# Altium schematic symbol library Potentiometer.SchLib: 30 symbols
Pins are listed as number, name and electrical type; pins without a type are passive.

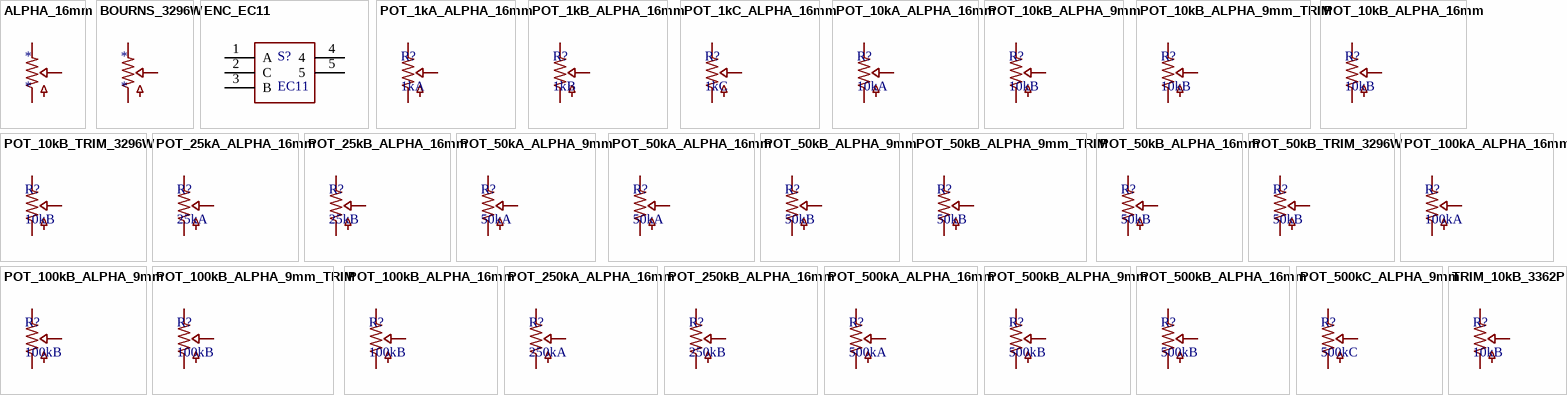
[diagram p0: symbols ALPHA_16mm to TRIM_10kB_3362P]

## ALPHA_16mm
designator *
Price: 0.5
footprint ALPHA_16mm_BOTTOM
footprint ALPHA_16mm_TOP
pins: 1, 2, 3

## BOURNS_3296W
designator *
Price: 0.1
footprint BOURNS_3296W
pins: 1, 2, 3

## ENC_EC11
designator S?, comment EC11
footprint ALPHA_EC11
pins: 1 A, 2 C, 3 B, 4, 5

## POT_1kA_ALPHA_16mm
designator R?, comment 1kA
1k Log potentiometer round shaft; Price: 0.5; Dimensions: 16mm; Package: PCB Mounted
footprint ALPHA_16mm_BOTTOM
footprint ALPHA_16mm_TOP
pins: 1, 2, 3

## POT_1kB_ALPHA_16mm
designator R?, comment 1kB
1k Lin potentiometer round shaft; Price: 0.5; Dimensions: 16mm; Package: PCB Mounted
footprint ALPHA_16mm_BOTTOM
footprint ALPHA_16mm_TOP
pins: 1, 2, 3

## POT_1kC_ALPHA_16mm
designator R?, comment 1kC
1k Reverse log potentiometer round shaft; Price: 0.5; Dimensions: 16mm; Package: PCB Mounted
footprint ALPHA_16mm_BOTTOM
footprint ALPHA_16mm_TOP
pins: 1, 2, 3

## POT_10kA_ALPHA_16mm
designator R?, comment 10kA
10k Log potentiometer round shaft; Price: 0.5; Dimensions: 16mm; Package: PCB Mounted
footprint ALPHA_16mm_BOTTOM
footprint ALPHA_16mm_TOP
pins: 1, 2, 3

## POT_10kB_ALPHA_9mm
designator R?, comment 10kB
10k Lin potentiometer round shaft; Price: 1.3; Dimensions: 9mm; Package: PCB Mounted
footprint ALPHA_9MM_TOP
footprint ALPHA_9MM_TOP_NOMH
pins: 1, 2, 3

## POT_10kB_ALPHA_9mm_TRIM
designator R?, comment 10kB
10k Lin potentiometer trimmer; Price: 1.3; Dimensions: 9mm; Package: PCB Mounted
footprint ALPHA_9MM_TRIM_TOP
pins: 1, 2, 3

## POT_10kB_ALPHA_16mm
designator R?, comment 10kB
10k Lin potentiometer round shaft; Price: 0.5; Dimensions: 16mm; Package: PCB Mounted
footprint ALPHA_16mm_BOTTOM
footprint ALPHA_16mm_TOP
pins: 1, 2, 3

## POT_10kB_TRIM_3296W
designator R?, comment 10kB
10k Lin 3296W trimmer; Price: 0.1
footprint BOURNS_3296W
pins: 1, 2, 3

## POT_25kA_ALPHA_16mm
designator R?, comment 25kA
25k Log potentiometer round shaft; Price: 0.5; Dimensions: 16mm; Package: PCB Mounted
footprint ALPHA_16mm_BOTTOM
footprint ALPHA_16mm_TOP
pins: 1, 2, 3

## POT_25kB_ALPHA_16mm
designator R?, comment 25kB
25k Lin potentiometer round shaft; Price: 0.5; Dimensions: 16mm; Package: PCB Mounted
footprint ALPHA_16mm_BOTTOM
footprint ALPHA_16mm_TOP
pins: 1, 2, 3

## POT_50kA_ALPHA_9mm
designator R?, comment 50kA
50k Log potentiometer round shaft; Price: 1.3; Dimensions: 9mm; Package: PCB Mounted
footprint ALPHA_9MM_TOP
footprint ALPHA_9MM_TOP_NOMH
pins: 1, 2, 3

## POT_50kA_ALPHA_16mm
designator R?, comment 50kA
50k Log potentiometer round shaft; Price: 0.5; Dimensions: 16mm; Package: PCB Mounted
footprint ALPHA_16mm_BOTTOM
footprint ALPHA_16mm_TOP
pins: 1, 2, 3

## POT_50kB_ALPHA_9mm
designator R?, comment 50kB
50k Lin potentiometer round shaft; Price: 1.3; Dimensions: 9mm; Package: PCB Mounted
footprint ALPHA_9MM_TOP
footprint ALPHA_9MM_TOP_NOMH
pins: 1, 2, 3

## POT_50kB_ALPHA_9mm_TRIM
designator R?, comment 50kB
50k Lin potentiometer trimmer; Price: 1.3; Dimensions: 9mm; Package: PCB Mounted
footprint ALPHA_9MM_TRIM_TOP
pins: 1, 2, 3

## POT_50kB_ALPHA_16mm
designator R?, comment 50kB
50k Lin potentiometer round shaft; Price: 0.5; Dimensions: 16mm; Package: PCB Mounted
footprint ALPHA_16mm_BOTTOM
footprint ALPHA_16mm_TOP
pins: 1, 2, 3

## POT_50kB_TRIM_3296W
designator R?, comment 50kB
50k Lin 3296W trimmer; Price: 0.1
footprint BOURNS_3296W
pins: 1, 2, 3

## POT_100kA_ALPHA_16mm
designator R?, comment 100kA
100k Log potentiometer round shaft; Price: 0.5; Dimensions: 16mm; Package: PCB Mounted
footprint ALPHA_16mm_BOTTOM
footprint ALPHA_16mm_TOP
pins: 1, 2, 3

## POT_100kB_ALPHA_9mm
designator R?, comment 100kB
100k Lin potentiometer round shaft; Price: 1.3; Dimensions: 9mm; Package: PCB Mounted
footprint ALPHA_9MM_TOP
footprint ALPHA_9MM_TOP_NOMH
pins: 1, 2, 3

## POT_100kB_ALPHA_9mm_TRIM
designator R?, comment 100kB
100k Lin potentiometer trimmer; Price: 1.3; Dimensions: 9mm; Package: PCB Mounted
footprint ALPHA_9MM_TRIM_TOP
pins: 1, 2, 3

## POT_100kB_ALPHA_16mm
designator R?, comment 100kB
100k Lin potentiometer round shaft; Price: 0.5; Dimensions: 16mm; Package: PCB Mounted
footprint ALPHA_16mm_BOTTOM
footprint ALPHA_16mm_TOP
pins: 1, 2, 3

## POT_250kA_ALPHA_16mm
designator R?, comment 250kA
250k Log potentiometer round shaft; Price: 0.5; Dimensions: 16mm; Package: PCB Mounted
footprint ALPHA_16mm_BOTTOM
footprint ALPHA_16mm_TOP
pins: 1, 2, 3

## POT_250kB_ALPHA_16mm
designator R?, comment 250kB
250k Lin potentiometer round shaft; Price: 0.5; Dimensions: 16mm; Package: PCB Mounted
footprint ALPHA_16mm_BOTTOM
footprint ALPHA_16mm_TOP
pins: 1, 2, 3

## POT_500kA_ALPHA_16mm
designator R?, comment 500kA
500k Log potentiometer round shaft; Price: 0.5; Dimensions: 16mm; Package: PCB Mounted
footprint ALPHA_16mm_BOTTOM
footprint ALPHA_16mm_TOP
pins: 1, 2, 3

## POT_500kB_ALPHA_9mm
designator R?, comment 500kB
500k Lin potentiometer round shaft; Price: 1.3; Dimensions: 9mm; Package: PCB Mounted
footprint ALPHA_9MM_TOP
footprint ALPHA_9MM_TOP_NOMH
pins: 1, 2, 3

## POT_500kB_ALPHA_16mm
designator R?, comment 500kB
500k Lin potentiometer round shaft; Price: 0.5; Dimensions: 16mm; Package: PCB Mounted
footprint ALPHA_16mm_BOTTOM
footprint ALPHA_16mm_TOP
pins: 1, 2, 3

## POT_500kC_ALPHA_9mm
designator R?, comment 500kC
500k Anti Log potentiometer round shaft; Price: 1.3; Dimensions: 9mm; Package: PCB Mounted
footprint ALPHA_9MM_TOP
footprint ALPHA_9MM_TOP_NOMH
pins: 1, 2, 3

## TRIM_10kB_3362P
designator R?, comment 10kB
10k Lin 3362P trimmer; Price: 0.1
footprint BOURNS_3362P
pins: 1, 2, 3